# Altium footprint library DIP50.PcbLib: 1 footprints
Each footprint in its own frame and in the unit in brackets; x right, y up, seen from the top. Pads: shape width x height; smd on the part's side, far side on the other; paste and mask are expansions set on the pad; w line width, h text height; cw(c..) or ccw(c..) is an arc to the next point about the centre after c.
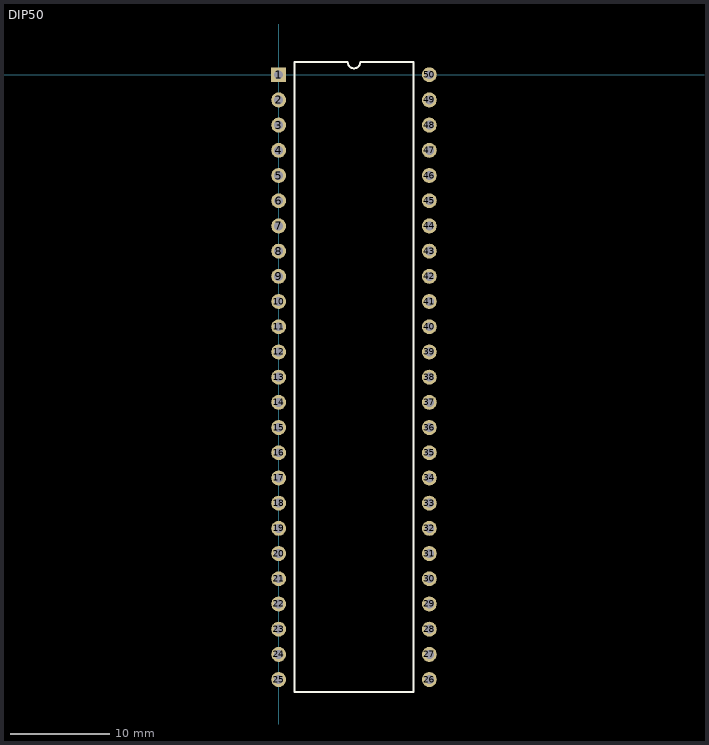
[diagram p0: the footprint, top view; thin cyan lines are the x and y axes]

## DIP50 [mm]
pads (50):
  rect 1.5x1.5 hole 0.9: 1(0,0)
  round 1.5 hole 0.9: 2(0,-2.54) 3(0,-5.08) 4(0,-7.62) 5(0,-10.16) 6(0,-12.7) 7(0,-15.24) 8(0,-17.78) 9(0,-20.32) 10(0,-22.86) 11(0,-25.4) 12(0,-27.94) 13(0,-30.48) 14(0,-33.02) 15(0,-35.56) 16(0,-38.1) 17(0,-40.64) 18(0,-43.18) 19(0,-45.72) 20(0,-48.26) 21(0,-50.8) 22(0,-53.34) 23(0,-55.88) 24(0,-58.42) 25(0,-60.96) 26(15.18,-60.96) 27(15.18,-58.42) 28(15.18,-55.88) 29(15.18,-53.34) 30(15.18,-50.8) 31(15.18,-48.26) 32(15.18,-45.72) 33(15.18,-43.18) 34(15.18,-40.64) 35(15.18,-38.1) 36(15.18,-35.56) 37(15.18,-33.02) 38(15.18,-30.48) 39(15.18,-27.94) 40(15.18,-25.4) 41(15.18,-22.86) 42(15.18,-20.32) 43(15.18,-17.78) 44(15.18,-15.24) 45(15.18,-12.7) 46(15.18,-10.16) 47(15.18,-7.62) 48(15.18,-5.08) 49(15.18,-2.54) 50(15.18,0)
Top Overlay:
  lines w0.2: 1.585,-62.23 13.595,-62.23 13.595,1.27 8.225,1.27 cw(c7.59,1.27) 6.955,1.27 1.585,1.27 1.585,-62.23